# EAGLE library part MAX5523EUA+ (library MAX5523EUA+)
Maxim MAX5523EUA+, 2-channel 10 bit Serial DAC, 8-Pin uMAX U8CN+1 Source: Datasheet <https://pdfserv.maximintegrated.com/en/ds/MAX5522-MAX5525.pdf>
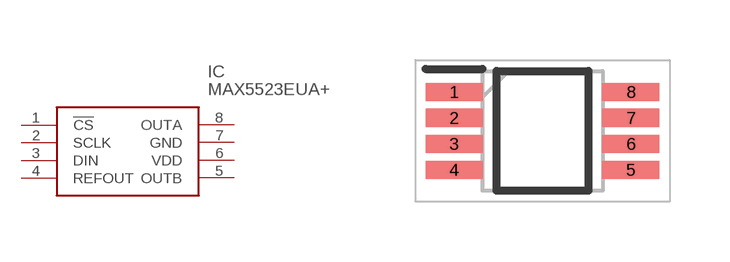
[diagram p0: symbol with the pads of SOP65P490X110-8N; footprint SOP65P490X110-8N]

Designator prefix IC

## MAX5523EUA+ (Description: Maxim MAX5523EUA+, 2-channel 10 bit Serial DAC, 8-Pin uMAX U8CN+1; Height: 1.1mm; Manufacturer_Name: Analog Devices; Manufacturer_Part_Number: MAX5523EUA+; Mouser_Part_Number: 700-MAX5523EUA; Mouser_Price-Stock: https://www.mouser.co.uk/ProductDetail/Analog-Devices-Maxim-Integrated/MAX5523EUA%2b?qs=9Cj2FLRihcNj5G7tv6WL1A%3D%3D)  [SOP65P490X110-8N]
1  !CS
2  SCLK
3  DIN
4  REFOUT
5  OUTB
6  VDD
7  GND
8  OUTA

## Footprint SOP65P490X110-8N (pad centres in mm)
U8CN+1
smd 1.425 x 0.45: 1 -2.212,0.975; 2 -2.212,0.325; 3 -2.212,-0.325; 4 -2.212,-0.975; 5 2.212,-0.975; 6 2.212,-0.325; 7 2.212,0.325; 8 2.212,0.975